# Altium schematic symbol library CN_JACK_PHONO_35RAPC4BH3.SchLib: 1 symbol
Pins are listed as number, name and electrical type; pins without a type are passive.

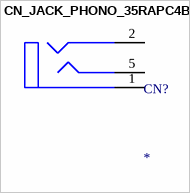
[diagram p0: symbol CN_JACK_PHONO_35RAPC4BH3]

## CN_JACK_PHONO_35RAPC4BH3
designator CN?
pins: 1, 2, 5